# EAGLE library part MAX4231* (library rfops)
MAX4231 Single-Supply, Rail-to-Rail I/O, High-Output-Drive OpAmp with Shutdown Maxim Integrated Products (Source: www.maxim-ic.com) MAX4231AUT+.. 6-Lead SOT23, RoHS-Compliant Author: Dipl.-Ing. FH Rainer Bayer HHN Hochschule Heilbronn, rainer.bayer@hs-heilbronn.de Ingenieurbüro ing-rb, mail@ing-rb.de
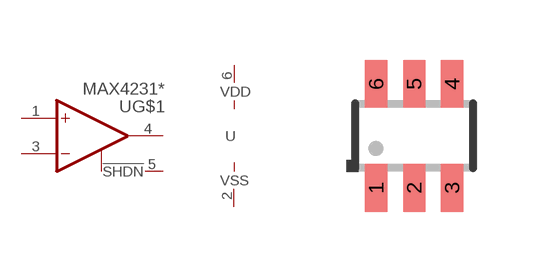
[diagram p3: symbol with the pads of SOT23-6L; footprint SOT23-6L]

Designator prefix U; gates G$1=OP_SHDN G$2=PWR

## MAX4231AUT+  [SOT23-6L]
1  G$1:+IN  in
2  G$2:VSS  pwr
3  G$1:-IN  in
4  G$1:OUT  out
5  G$1:NSDHN  in
6  G$2:VDD  pwr

## Footprint SOT23-6L (pad centres in mm)
6-Lead SOT23-6L Small Outline Transistor
smd 0.55 x 1.2: 1 -0.95,-1.3; 2 0,-1.3; 3 0.95,-1.3; 4 0.95,1.3; 5 0,1.3; 6 -0.95,1.3